# EAGLE library part DIP-08 (library SM-IC-Packages)
Dual In Line / Socket
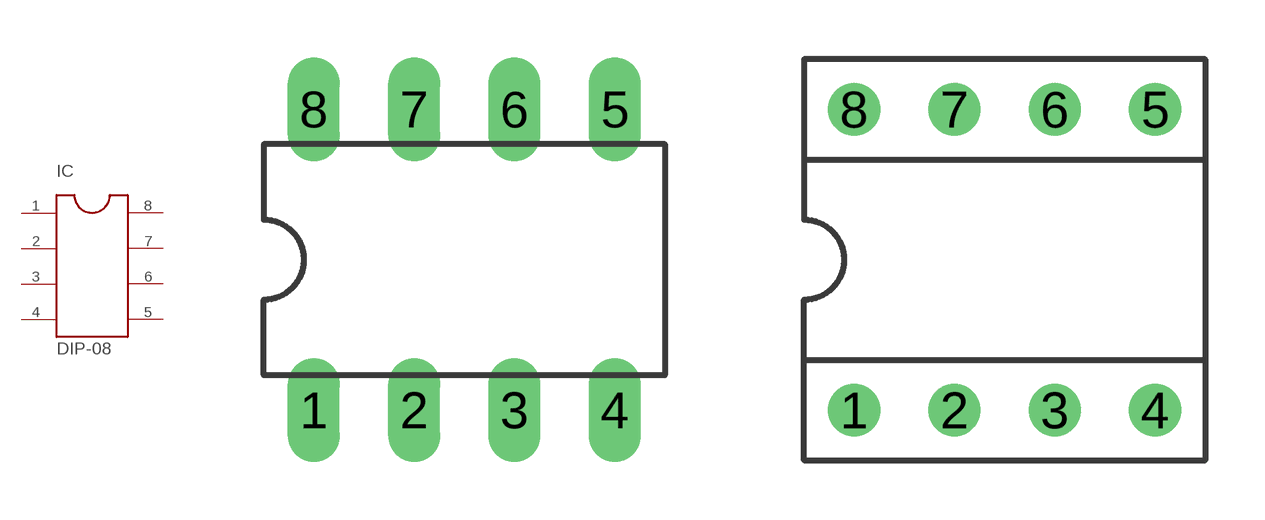
[diagram p1: symbol with the pads of DIP-08; footprints DIP-08, DIP-08-SOCKET]

Designator prefix IC

## DIP-08  [DIP-08]
1  1  pas
2  2  pas
3  3  pas
4  4  pas
5  5  pas
6  6  pas
7  7  pas
8  8  pas

## DIP-08S  [DIP-08-SOCKET]
Pads as for DIP-08

## Footprint DIP-08 (pad centres in mm)
Dual In Line Package
drill 0.813 long: 1 -3.81,-3.81; 2 -1.27,-3.81; 3 1.27,-3.81; 4 3.81,-3.81; 5 3.81,3.81; 6 1.27,3.81; 7 -1.27,3.81; 8 -3.81,3.81

## Footprint DIP-08-SOCKET (pad centres in mm)
Dual In Line Socket
drill 0.813: 1 -3.81,-3.81; 2 -1.27,-3.81; 3 1.27,-3.81; 4 3.81,-3.81; 5 3.81,3.81; 6 1.27,3.81; 7 -1.27,3.81; 8 -3.81,3.81